# Altium footprint library QFP_Sq_65P_Side_M.PcbLib: 15 footprints
Each footprint in its own frame and in the unit in brackets; x right, y up, seen from the top. Pads: shape width x height; smd on the part's side, far side on the other; paste and mask are expansions set on the pad; w line width, h text height; cw(c..) or ccw(c..) is an arc to the next point about the centre after c.
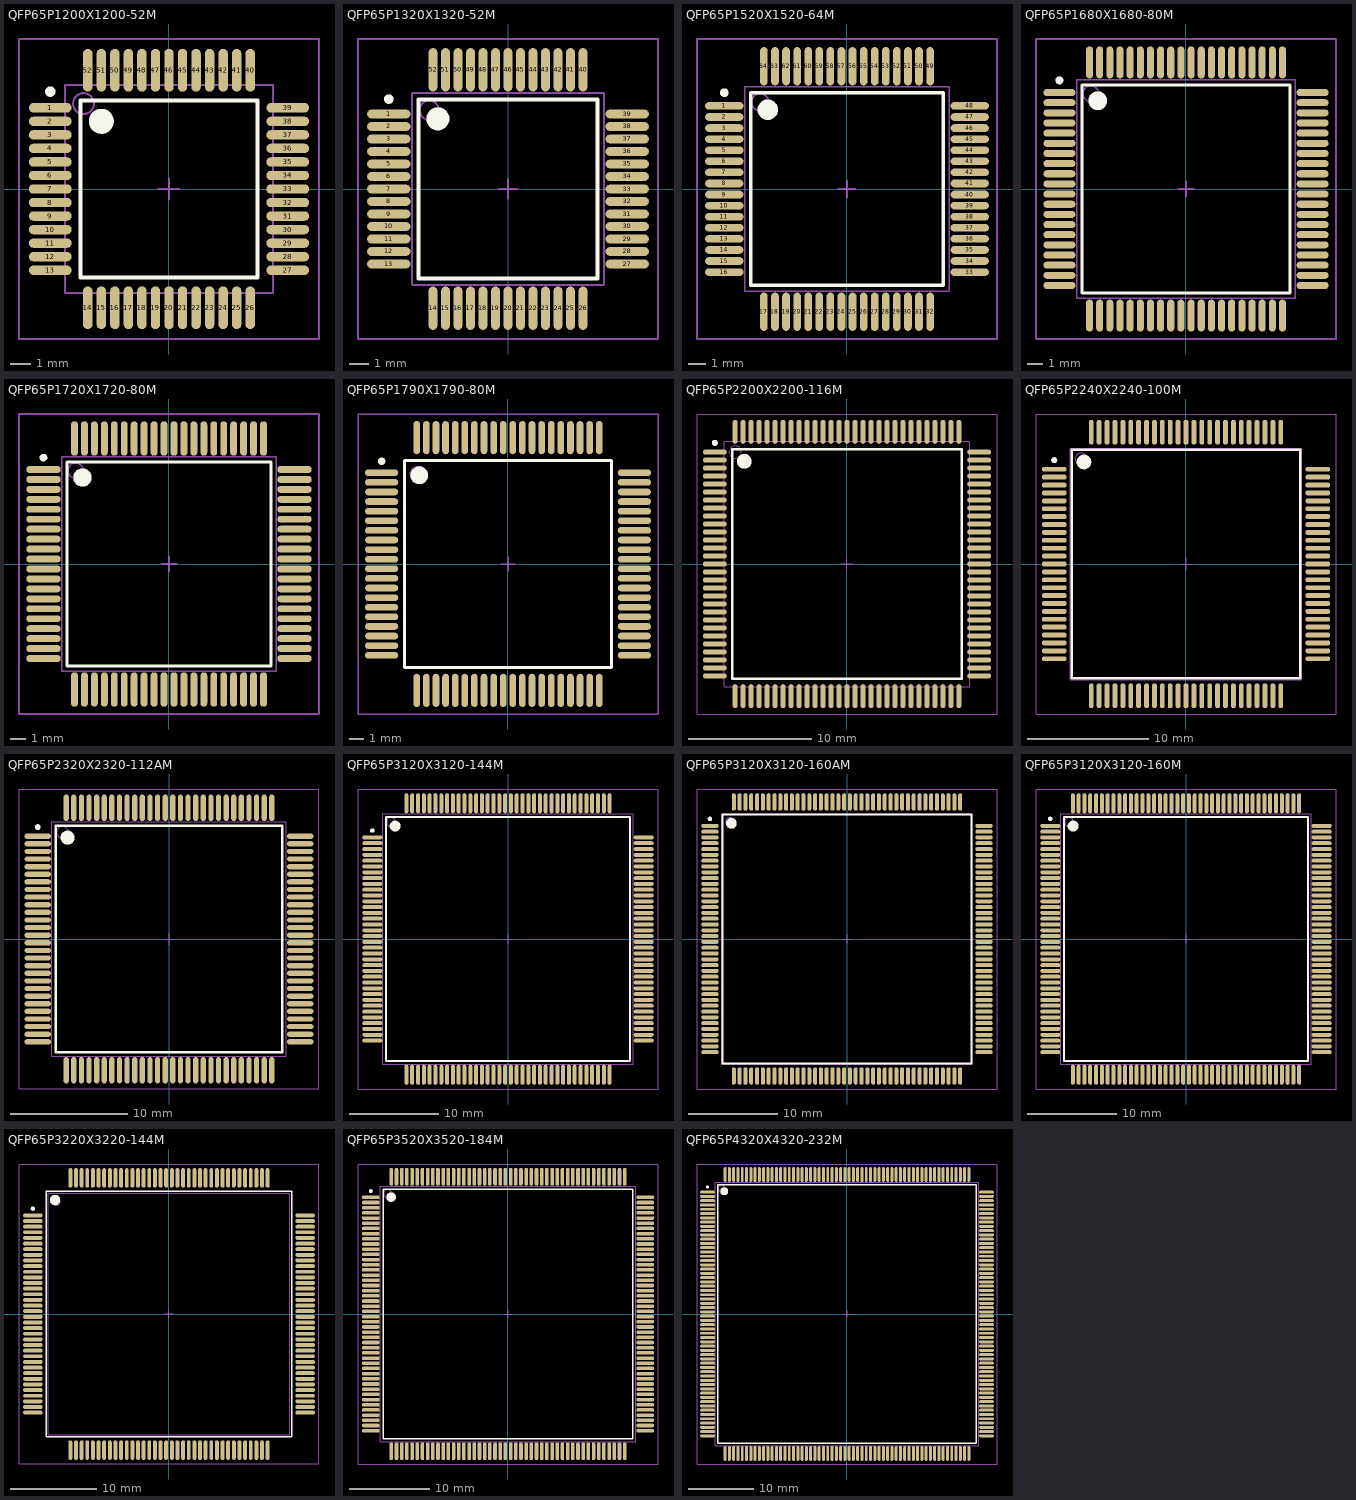
[diagram p0: the footprints below, top view; thin cyan lines are the x and y axes]

## QFP65P1200X1200-52M [mm] "QFP, 52-Leads, Body 10 x 10mm, Pitch 0.65mm, IPC Low Density"
height 1.7
pads (52):
  oval 2.05x0.45 smd: 1(-5.7,3.9) 2(-5.7,3.25) 3(-5.7,2.6) 4(-5.7,1.95) 5(-5.7,1.3) 6(-5.7,0.65) 7(-5.7,0) 8(-5.7,-0.65) 9(-5.7,-1.3) 10(-5.7,-1.95) 11(-5.7,-2.6) 12(-5.7,-3.25) 13(-5.7,-3.9) 27(5.7,-3.9) 28(5.7,-3.25) 29(5.7,-2.6) 30(5.7,-1.95) 31(5.7,-1.3) 32(5.7,-0.65) 33(5.7,0) 34(5.7,0.65) 35(5.7,1.3) 36(5.7,1.95) 37(5.7,2.6) 38(5.7,3.25) 39(5.7,3.9)
  oval 0.45x2.05 smd: 14(-3.9,-5.7) 15(-3.25,-5.7) 16(-2.6,-5.7) 17(-1.95,-5.7) 18(-1.3,-5.7) 19(-0.65,-5.7) 20(0,-5.7) 21(0.65,-5.7) 22(1.3,-5.7) 23(1.95,-5.7) 24(2.6,-5.7) 25(3.25,-5.7) 26(3.9,-5.7) 40(3.9,5.7) 41(3.25,5.7) 42(2.6,5.7) 43(1.95,5.7) 44(1.3,5.7) 45(0.65,5.7) 46(0,5.7) 47(-0.65,5.7) 48(-1.3,5.7) 49(-1.95,5.7) 50(-2.6,5.7) 51(-3.25,5.7) 52(-3.9,5.7)
Top Overlay:
  circle w0.25: c-5.7,4.675 r0.125
  circle w0.6: c-3.25,3.25 r0.3
  lines w0.2: -4.25,-4.25 -4.25,4.25 4.25,4.25 4.25,-4.25 -4.25,-4.25
Mechanical 13:
  circle w0.1: c-4.1,4.1 r0.5
  lines w0.1: -5,-5 -5,5 5,5 5,-5 -5,-5
Mechanical 15:
  lines w0.1: -0.5,0 0.5,0 ; 0,-0.5 0,0.5 ; -7.2,-7.2 -7.2,7.2 7.2,7.2 7.2,-7.2 -7.2,-7.2
3D body: height 1.7, standoff 0, extent -5,-5 5,5

## QFP65P1320X1320-52M [mm] "QFP, 52-Leads, Body 10 x 10mm, Pitch 0.65mm, IPC Low Density"
height 2.45
pads (52):
  oval 2.25x0.45 smd: 1(-6.2,3.9) 2(-6.2,3.25) 3(-6.2,2.6) 4(-6.2,1.95) 5(-6.2,1.3) 6(-6.2,0.65) 7(-6.2,0) 8(-6.2,-0.65) 9(-6.2,-1.3) 10(-6.2,-1.95) 11(-6.2,-2.6) 12(-6.2,-3.25) 13(-6.2,-3.9) 27(6.2,-3.9) 28(6.2,-3.25) 29(6.2,-2.6) 30(6.2,-1.95) 31(6.2,-1.3) 32(6.2,-0.65) 33(6.2,0) 34(6.2,0.65) 35(6.2,1.3) 36(6.2,1.95) 37(6.2,2.6) 38(6.2,3.25) 39(6.2,3.9)
  oval 0.45x2.25 smd: 14(-3.9,-6.2) 15(-3.25,-6.2) 16(-2.6,-6.2) 17(-1.95,-6.2) 18(-1.3,-6.2) 19(-0.65,-6.2) 20(0,-6.2) 21(0.65,-6.2) 22(1.3,-6.2) 23(1.95,-6.2) 24(2.6,-6.2) 25(3.25,-6.2) 26(3.9,-6.2) 40(3.9,6.2) 41(3.25,6.2) 42(2.6,6.2) 43(1.95,6.2) 44(1.3,6.2) 45(0.65,6.2) 46(0,6.2) 47(-0.65,6.2) 48(-1.3,6.2) 49(-1.95,6.2) 50(-2.6,6.2) 51(-3.25,6.2) 52(-3.9,6.2)
Top Overlay:
  circle w0.6: c-3.65,3.65 r0.3
  circle w0.25: c-6.2,4.675 r0.125
  lines w0.2: -4.65,-4.65 4.65,-4.65 4.65,4.65 -4.65,4.65 -4.65,-4.65
Mechanical 13:
  circle w0.1: c-4.1,4.1 r0.5
  lines w0.1: -5,-5 5,-5 5,5 -5,5 -5,-5
Mechanical 15:
  lines w0.1: -0.5,0 0.5,0 ; 0,-0.5 0,0.5 ; -7.8,-7.8 7.8,-7.8 7.8,7.8 -7.8,7.8 -7.8,-7.8
3D body: height 2.45, standoff 0, extent -5,-5 5,5

## QFP65P1520X1520-64M [mm] "QFP, 64-Leads, Body 12 x 12 mm, Pitch 0.65mm, IPC Low Density"
height 2.45
pads (64):
  oval 2.25x0.45 smd: 1(-7.2,4.875) 2(-7.2,4.225) 3(-7.2,3.575) 4(-7.2,2.925) 5(-7.2,2.275) 6(-7.2,1.625) 7(-7.2,0.975) 8(-7.2,0.325) 9(-7.2,-0.325) 10(-7.2,-0.975) 11(-7.2,-1.625) 12(-7.2,-2.275) 13(-7.2,-2.925) 14(-7.2,-3.575) 15(-7.2,-4.225) 16(-7.2,-4.875) 33(7.2,-4.875) 34(7.2,-4.225) 35(7.2,-3.575) 36(7.2,-2.925) 37(7.2,-2.275) 38(7.2,-1.625) 39(7.2,-0.975) 40(7.2,-0.325) 41(7.2,0.325) 42(7.2,0.975) 43(7.2,1.625) 44(7.2,2.275) 45(7.2,2.925) 46(7.2,3.575) 47(7.2,4.225) 48(7.2,4.875)
  oval 0.45x2.25 smd: 17(-4.875,-7.2) 18(-4.225,-7.2) 19(-3.575,-7.2) 20(-2.925,-7.2) 21(-2.275,-7.2) 22(-1.625,-7.2) 23(-0.975,-7.2) 24(-0.325,-7.2) 25(0.325,-7.2) 26(0.975,-7.2) 27(1.625,-7.2) 28(2.275,-7.2) 29(2.925,-7.2) 30(3.575,-7.2) 31(4.225,-7.2) 32(4.875,-7.2) 49(4.875,7.2) 50(4.225,7.2) 51(3.575,7.2) 52(2.925,7.2) 53(2.275,7.2) 54(1.625,7.2) 55(0.975,7.2) 56(0.325,7.2) 57(-0.325,7.2) 58(-0.975,7.2) 59(-1.625,7.2) 60(-2.275,7.2) 61(-2.925,7.2) 62(-3.575,7.2) 63(-4.225,7.2) 64(-4.875,7.2)
Top Overlay:
  circle w0.6: c-4.65,4.65 r0.3
  circle w0.25: c-7.2,5.65 r0.125
  lines w0.2: -5.65,-5.65 5.65,-5.65 5.65,5.65 -5.65,5.65 -5.65,-5.65
Mechanical 13:
  circle w0.1: c-5.1,5.1 r0.5
  lines w0.1: -6,-6 6,-6 6,6 -6,6 -6,-6
Mechanical 15:
  lines w0.1: -0.5,0 0.5,0 ; 0,-0.5 0,0.5 ; -8.8,-8.8 8.8,-8.8 8.8,8.8 -8.8,8.8 -8.8,-8.8
3D body: height 2.45, standoff 0, extent -6,-6 6,6

## QFP65P1680X1680-80M [mm] "80-Pin Quad Flat Pack 0.65 mm Pitch"
height 3.05
pads (80):
  oval 2.05x0.45 smd: 1(-8.1,6.175) 2(-8.1,5.525) 3(-8.1,4.875) 4(-8.1,4.225) 5(-8.1,3.575) 6(-8.1,2.925) 7(-8.1,2.275) 8(-8.1,1.625) 9(-8.1,0.975) 10(-8.1,0.325) 11(-8.1,-0.325) 12(-8.1,-0.975) 13(-8.1,-1.625) 14(-8.1,-2.275) 15(-8.1,-2.925) 16(-8.1,-3.575) 17(-8.1,-4.225) 18(-8.1,-4.875) 19(-8.1,-5.525) 20(-8.1,-6.175) 41(8.1,-6.175) 42(8.1,-5.525) 43(8.1,-4.875) 44(8.1,-4.225) 45(8.1,-3.575) 46(8.1,-2.925) 47(8.1,-2.275) 48(8.1,-1.625) 49(8.1,-0.975) 50(8.1,-0.325) 51(8.1,0.325) 52(8.1,0.975) 53(8.1,1.625) 54(8.1,2.275) 55(8.1,2.925) 56(8.1,3.575) 57(8.1,4.225) 58(8.1,4.875) 59(8.1,5.525) 60(8.1,6.175)
  oval 0.45x2.05 smd: 21(-6.175,-8.1) 22(-5.525,-8.1) 23(-4.875,-8.1) 24(-4.225,-8.1) 25(-3.575,-8.1) 26(-2.925,-8.1) 27(-2.275,-8.1) 28(-1.625,-8.1) 29(-0.975,-8.1) 30(-0.325,-8.1) 31(0.325,-8.1) 32(0.975,-8.1) 33(1.625,-8.1) 34(2.275,-8.1) 35(2.925,-8.1) 36(3.575,-8.1) 37(4.225,-8.1) 38(4.875,-8.1) 39(5.525,-8.1) 40(6.175,-8.1) 61(6.175,8.1) 62(5.525,8.1) 63(4.875,8.1) 64(4.225,8.1) 65(3.575,8.1) 66(2.925,8.1) 67(2.275,8.1) 68(1.625,8.1) 69(0.975,8.1) 70(0.325,8.1) 71(-0.325,8.1) 72(-0.975,8.1) 73(-1.625,8.1) 74(-2.275,8.1) 75(-2.925,8.1) 76(-3.575,8.1) 77(-4.225,8.1) 78(-4.875,8.1) 79(-5.525,8.1) 80(-6.175,8.1)
Top Overlay:
  circle w0.6: c-5.65,5.65 r0.3
  circle w0.25: c-8.1,6.95 r0.125
  lines w0.2: -6.65,-6.65 6.65,-6.65 6.65,6.65 -6.65,6.65 -6.65,-6.65
Mechanical 13:
  circle w0.1: c-6.1,6.1 r0.5
  lines w0.1: -7,-7 7,-7 7,7 -7,7 -7,-7
Mechanical 15:
  lines w0.1: -0.5,0 0.5,0 ; 0,-0.5 0,0.5 ; -9.6,-9.6 9.6,-9.6 9.6,9.6 -9.6,9.6 -9.6,-9.6
3D body: height 3.05, standoff 0, extent -7,-7 7,7

## QFP65P1720X1720-80M [mm] "QFP, 80-Leads, Body 14 x 14mm, Pitch 0.65mm, IPC Low Density"
height 2.45
pads (80):
  oval 2.25x0.45 smd: 1(-8.2,6.175) 2(-8.2,5.525) 3(-8.2,4.875) 4(-8.2,4.225) 5(-8.2,3.575) 6(-8.2,2.925) 7(-8.2,2.275) 8(-8.2,1.625) 9(-8.2,0.975) 10(-8.2,0.325) 11(-8.2,-0.325) 12(-8.2,-0.975) 13(-8.2,-1.625) 14(-8.2,-2.275) 15(-8.2,-2.925) 16(-8.2,-3.575) 17(-8.2,-4.225) 18(-8.2,-4.875) 19(-8.2,-5.525) 20(-8.2,-6.175) 41(8.2,-6.175) 42(8.2,-5.525) 43(8.2,-4.875) 44(8.2,-4.225) 45(8.2,-3.575) 46(8.2,-2.925) 47(8.2,-2.275) 48(8.2,-1.625) 49(8.2,-0.975) 50(8.2,-0.325) 51(8.2,0.325) 52(8.2,0.975) 53(8.2,1.625) 54(8.2,2.275) 55(8.2,2.925) 56(8.2,3.575) 57(8.2,4.225) 58(8.2,4.875) 59(8.2,5.525) 60(8.2,6.175)
  oval 0.45x2.25 smd: 21(-6.175,-8.2) 22(-5.525,-8.2) 23(-4.875,-8.2) 24(-4.225,-8.2) 25(-3.575,-8.2) 26(-2.925,-8.2) 27(-2.275,-8.2) 28(-1.625,-8.2) 29(-0.975,-8.2) 30(-0.325,-8.2) 31(0.325,-8.2) 32(0.975,-8.2) 33(1.625,-8.2) 34(2.275,-8.2) 35(2.925,-8.2) 36(3.575,-8.2) 37(4.225,-8.2) 38(4.875,-8.2) 39(5.525,-8.2) 40(6.175,-8.2) 61(6.175,8.2) 62(5.525,8.2) 63(4.875,8.2) 64(4.225,8.2) 65(3.575,8.2) 66(2.925,8.2) 67(2.275,8.2) 68(1.625,8.2) 69(0.975,8.2) 70(0.325,8.2) 71(-0.325,8.2) 72(-0.975,8.2) 73(-1.625,8.2) 74(-2.275,8.2) 75(-2.925,8.2) 76(-3.575,8.2) 77(-4.225,8.2) 78(-4.875,8.2) 79(-5.525,8.2) 80(-6.175,8.2)
Top Overlay:
  circle w0.6: c-5.65,5.65 r0.3
  circle w0.25: c-8.2,6.95 r0.125
  lines w0.2: -6.65,-6.65 6.65,-6.65 6.65,6.65 -6.65,6.65 -6.65,-6.65
Mechanical 13:
  circle w0.1: c-6.1,6.1 r0.5
  lines w0.1: -7,-7 7,-7 7,7 -7,7 -7,-7
Mechanical 15:
  lines w0.1: -0.5,0 0.5,0 ; 0,-0.5 0,0.5 ; -9.8,-9.8 9.8,-9.8 9.8,9.8 -9.8,9.8 -9.8,-9.8
3D body: height 2.45, standoff 0, extent -7,-7 7,7

## QFP65P1790X1790-80M [mm] "QFP, 80-Leads, Body 14 x 14mm, Pitch 0.65mm, IPC Low Density"
height 3.4
pads (80):
  oval 2.25x0.45 smd: 1(-8.55,6.175) 2(-8.55,5.525) 3(-8.55,4.875) 4(-8.55,4.225) 5(-8.55,3.575) 6(-8.55,2.925) 7(-8.55,2.275) 8(-8.55,1.625) 9(-8.55,0.975) 10(-8.55,0.325) 11(-8.55,-0.325) 12(-8.55,-0.975) 13(-8.55,-1.625) 14(-8.55,-2.275) 15(-8.55,-2.925) 16(-8.55,-3.575) 17(-8.55,-4.225) 18(-8.55,-4.875) 19(-8.55,-5.525) 20(-8.55,-6.175) 41(8.55,-6.175) 42(8.55,-5.525) 43(8.55,-4.875) 44(8.55,-4.225) 45(8.55,-3.575) 46(8.55,-2.925) 47(8.55,-2.275) 48(8.55,-1.625) 49(8.55,-0.975) 50(8.55,-0.325) 51(8.55,0.325) 52(8.55,0.975) 53(8.55,1.625) 54(8.55,2.275) 55(8.55,2.925) 56(8.55,3.575) 57(8.55,4.225) 58(8.55,4.875) 59(8.55,5.525) 60(8.55,6.175)
  oval 0.45x2.25 smd: 21(-6.175,-8.55) 22(-5.525,-8.55) 23(-4.875,-8.55) 24(-4.225,-8.55) 25(-3.575,-8.55) 26(-2.925,-8.55) 27(-2.275,-8.55) 28(-1.625,-8.55) 29(-0.975,-8.55) 30(-0.325,-8.55) 31(0.325,-8.55) 32(0.975,-8.55) 33(1.625,-8.55) 34(2.275,-8.55) 35(2.925,-8.55) 36(3.575,-8.55) 37(4.225,-8.55) 38(4.875,-8.55) 39(5.525,-8.55) 40(6.175,-8.55) 61(6.175,8.55) 62(5.525,8.55) 63(4.875,8.55) 64(4.225,8.55) 65(3.575,8.55) 66(2.925,8.55) 67(2.275,8.55) 68(1.625,8.55) 69(0.975,8.55) 70(0.325,8.55) 71(-0.325,8.55) 72(-0.975,8.55) 73(-1.625,8.55) 74(-2.275,8.55) 75(-2.925,8.55) 76(-3.575,8.55) 77(-4.225,8.55) 78(-4.875,8.55) 79(-5.525,8.55) 80(-6.175,8.55)
Top Overlay:
  circle w0.6: c-6,6 r0.3
  circle w0.25: c-8.55,6.95 r0.125
  lines w0.2: -7,-7 7,-7 7,7 -7,7 -7,-7
Mechanical 13:
  circle w0.1: c-6.1,6.1 r0.5
  lines w0.1: -7,-7 7,-7 7,7 -7,7 -7,-7
Mechanical 15:
  lines w0.1: -0.5,0 0.5,0 ; 0,-0.5 0,0.5 ; -10.15,-10.15 10.15,-10.15 10.15,10.15 -10.15,10.15 -10.15,-10.15
3D body: height 3.4, standoff 0, extent -7,-7 7,7

## QFP65P2200X2200-116M [mm] "116-Pin Quad Flat Pack 0.65 mm Pitch"
height 1.7
pads (116):
  oval 1.95x0.4 smd: 1(-10.75,9.1) 2(-10.75,8.45) 3(-10.75,7.8) 4(-10.75,7.15) 5(-10.75,6.5) 6(-10.75,5.85) 7(-10.75,5.2) 8(-10.75,4.55) 9(-10.75,3.9) 10(-10.75,3.25) 11(-10.75,2.6) 12(-10.75,1.95) 13(-10.75,1.3) 14(-10.75,0.65) 15(-10.75,0) 16(-10.75,-0.65) 17(-10.75,-1.3) 18(-10.75,-1.95) 19(-10.75,-2.6) 20(-10.75,-3.25) 21(-10.75,-3.9) 22(-10.75,-4.55) 23(-10.75,-5.2) 24(-10.75,-5.85) 25(-10.75,-6.5) 26(-10.75,-7.15) 27(-10.75,-7.8) 28(-10.75,-8.45) 29(-10.75,-9.1) 59(10.75,-9.1) 60(10.75,-8.45) 61(10.75,-7.8) 62(10.75,-7.15) 63(10.75,-6.5) 64(10.75,-5.85) 65(10.75,-5.2) 66(10.75,-4.55) 67(10.75,-3.9) 68(10.75,-3.25) 69(10.75,-2.6) 70(10.75,-1.95) 71(10.75,-1.3) 72(10.75,-0.65) 73(10.75,0) 74(10.75,0.65) 75(10.75,1.3) 76(10.75,1.95) 77(10.75,2.6) 78(10.75,3.25) 79(10.75,3.9) 80(10.75,4.55) 81(10.75,5.2) 82(10.75,5.85) 83(10.75,6.5) 84(10.75,7.15) 85(10.75,7.8) 86(10.75,8.45) 87(10.75,9.1)
  oval 0.4x1.95 smd: 30(-9.1,-10.75) 31(-8.45,-10.75) 32(-7.8,-10.75) 33(-7.15,-10.75) 34(-6.5,-10.75) 35(-5.85,-10.75) 36(-5.2,-10.75) 37(-4.55,-10.75) 38(-3.9,-10.75) 39(-3.25,-10.75) 40(-2.6,-10.75) 41(-1.95,-10.75) 42(-1.3,-10.75) 43(-0.65,-10.75) 44(0,-10.75) 45(0.65,-10.75) 46(1.3,-10.75) 47(1.95,-10.75) 48(2.6,-10.75) 49(3.25,-10.75) 50(3.9,-10.75) 51(4.55,-10.75) 52(5.2,-10.75) 53(5.85,-10.75) 54(6.5,-10.75) 55(7.15,-10.75) 56(7.8,-10.75) 57(8.45,-10.75) 58(9.1,-10.75) 88(9.1,10.75) 89(8.45,10.75) 90(7.8,10.75) 91(7.15,10.75) 92(6.5,10.75) 93(5.85,10.75) 94(5.2,10.75) 95(4.55,10.75) 96(3.9,10.75) 97(3.25,10.75) 98(2.6,10.75) 99(1.95,10.75) 100(1.3,10.75) 101(0.65,10.75) 102(0,10.75) 103(-0.65,10.75) 104(-1.3,10.75) 105(-1.95,10.75) 106(-2.6,10.75) 107(-3.25,10.75) 108(-3.9,10.75) 109(-4.55,10.75) 110(-5.2,10.75) 111(-5.85,10.75) 112(-6.5,10.75) 113(-7.15,10.75) 114(-7.8,10.75) 115(-8.45,10.75) 116(-9.1,10.75)
Top Overlay:
  circle w0.6: c-8.35,8.35 r0.3
  circle w0.25: c-10.75,9.85 r0.125
  lines w0.2: -9.35,-9.35 9.35,-9.35 9.35,9.35 -9.35,9.35 -9.35,-9.35
Mechanical 13:
  circle w0.1: c-9.1,9.1 r0.5
  lines w0.1: -10,-10 10,-10 10,10 -10,10 -10,-10
Mechanical 15:
  lines w0.1: -0.5,0 0.5,0 ; 0,-0.5 0,0.5 ; -12.2,-12.2 12.2,-12.2 12.2,12.2 -12.2,12.2 -12.2,-12.2
3D body: height 1.7, standoff 0, extent -10,-10 10,10

## QFP65P2240X2240-100M [mm] "100-Pin Quad Flat Pack 0.65 mm Pitch"
height 4.07
pads (100):
  oval 2.05x0.4 smd: 1(-10.85,7.8) 2(-10.85,7.15) 3(-10.85,6.5) 4(-10.85,5.85) 5(-10.85,5.2) 6(-10.85,4.55) 7(-10.85,3.9) 8(-10.85,3.25) 9(-10.85,2.6) 10(-10.85,1.95) 11(-10.85,1.3) 12(-10.85,0.65) 13(-10.85,0) 14(-10.85,-0.65) 15(-10.85,-1.3) 16(-10.85,-1.95) 17(-10.85,-2.6) 18(-10.85,-3.25) 19(-10.85,-3.9) 20(-10.85,-4.55) 21(-10.85,-5.2) 22(-10.85,-5.85) 23(-10.85,-6.5) 24(-10.85,-7.15) 25(-10.85,-7.8) 51(10.85,-7.8) 52(10.85,-7.15) 53(10.85,-6.5) 54(10.85,-5.85) 55(10.85,-5.2) 56(10.85,-4.55) 57(10.85,-3.9) 58(10.85,-3.25) 59(10.85,-2.6) 60(10.85,-1.95) 61(10.85,-1.3) 62(10.85,-0.65) 63(10.85,0) 64(10.85,0.65) 65(10.85,1.3) 66(10.85,1.95) 67(10.85,2.6) 68(10.85,3.25) 69(10.85,3.9) 70(10.85,4.55) 71(10.85,5.2) 72(10.85,5.85) 73(10.85,6.5) 74(10.85,7.15) 75(10.85,7.8)
  oval 0.4x2.05 smd: 26(-7.8,-10.85) 27(-7.15,-10.85) 28(-6.5,-10.85) 29(-5.85,-10.85) 30(-5.2,-10.85) 31(-4.55,-10.85) 32(-3.9,-10.85) 33(-3.25,-10.85) 34(-2.6,-10.85) 35(-1.95,-10.85) 36(-1.3,-10.85) 37(-0.65,-10.85) 38(0,-10.85) 39(0.65,-10.85) 40(1.3,-10.85) 41(1.95,-10.85) 42(2.6,-10.85) 43(3.25,-10.85) 44(3.9,-10.85) 45(4.55,-10.85) 46(5.2,-10.85) 47(5.85,-10.85) 48(6.5,-10.85) 49(7.15,-10.85) 50(7.8,-10.85) 76(7.8,10.85) 77(7.15,10.85) 78(6.5,10.85) 79(5.85,10.85) 80(5.2,10.85) 81(4.55,10.85) 82(3.9,10.85) 83(3.25,10.85) 84(2.6,10.85) 85(1.95,10.85) 86(1.3,10.85) 87(0.65,10.85) 88(0,10.85) 89(-0.65,10.85) 90(-1.3,10.85) 91(-1.95,10.85) 92(-2.6,10.85) 93(-3.25,10.85) 94(-3.9,10.85) 95(-4.55,10.85) 96(-5.2,10.85) 97(-5.85,10.85) 98(-6.5,10.85) 99(-7.15,10.85) 100(-7.8,10.85)
Top Overlay:
  circle w0.6: c-8.4,8.4 r0.3
  circle w0.25: c-10.85,8.55 r0.125
  lines w0.2: -9.4,-9.4 9.4,-9.4 9.4,9.4 -9.4,9.4 -9.4,-9.4
Mechanical 13:
  circle w0.1: c-8.625,8.625 r0.5
  lines w0.1: -9.525,-9.525 9.525,-9.525 9.525,9.525 -9.525,9.525 -9.525,-9.525
Mechanical 15:
  lines w0.1: -0.5,0 0.5,0 ; 0,-0.5 0,0.5 ; -12.35,-12.35 12.35,-12.35 12.35,12.35 -12.35,12.35 -12.35,-12.35
3D body: height 4.07, standoff 0, extent -9.525,-9.525 9.525,9.525

## QFP65P2320X2320-112AM [mm] "QFP, 112-Leads, Body 20 x 20mm, Pitch 0.65mm, IPC Low Density"
height 3.4
pads (112):
  oval 2.25x0.45 smd: 1(-11.2,8.775) 2(-11.2,8.125) 3(-11.2,7.475) 4(-11.2,6.825) 5(-11.2,6.175) 6(-11.2,5.525) 7(-11.2,4.875) 8(-11.2,4.225) 9(-11.2,3.575) 10(-11.2,2.925) 11(-11.2,2.275) 12(-11.2,1.625) 13(-11.2,0.975) 14(-11.2,0.325) 15(-11.2,-0.325) 16(-11.2,-0.975) 17(-11.2,-1.625) 18(-11.2,-2.275) 19(-11.2,-2.925) 20(-11.2,-3.575) 21(-11.2,-4.225) 22(-11.2,-4.875) 23(-11.2,-5.525) 24(-11.2,-6.175) 25(-11.2,-6.825) 26(-11.2,-7.475) 27(-11.2,-8.125) 28(-11.2,-8.775) 57(11.2,-8.775) 58(11.2,-8.125) 59(11.2,-7.475) 60(11.2,-6.825) 61(11.2,-6.175) 62(11.2,-5.525) 63(11.2,-4.875) 64(11.2,-4.225) 65(11.2,-3.575) 66(11.2,-2.925) 67(11.2,-2.275) 68(11.2,-1.625) 69(11.2,-0.975) 70(11.2,-0.325) 71(11.2,0.325) 72(11.2,0.975) 73(11.2,1.625) 74(11.2,2.275) 75(11.2,2.925) 76(11.2,3.575) 77(11.2,4.225) 78(11.2,4.875) 79(11.2,5.525) 80(11.2,6.175) 81(11.2,6.825) 82(11.2,7.475) 83(11.2,8.125) 84(11.2,8.775)
  oval 0.45x2.25 smd: 29(-8.775,-11.2) 30(-8.125,-11.2) 31(-7.475,-11.2) 32(-6.825,-11.2) 33(-6.175,-11.2) 34(-5.525,-11.2) 35(-4.875,-11.2) 36(-4.225,-11.2) 37(-3.575,-11.2) 38(-2.925,-11.2) 39(-2.275,-11.2) 40(-1.625,-11.2) 41(-0.975,-11.2) 42(-0.325,-11.2) 43(0.325,-11.2) 44(0.975,-11.2) 45(1.625,-11.2) 46(2.275,-11.2) 47(2.925,-11.2) 48(3.575,-11.2) 49(4.225,-11.2) 50(4.875,-11.2) 51(5.525,-11.2) 52(6.175,-11.2) 53(6.825,-11.2) 54(7.475,-11.2) 55(8.125,-11.2) 56(8.775,-11.2) 85(8.775,11.2) 86(8.125,11.2) 87(7.475,11.2) 88(6.825,11.2) 89(6.175,11.2) 90(5.525,11.2) 91(4.875,11.2) 92(4.225,11.2) 93(3.575,11.2) 94(2.925,11.2) 95(2.275,11.2) 96(1.625,11.2) 97(0.975,11.2) 98(0.325,11.2) 99(-0.325,11.2) 100(-0.975,11.2) 101(-1.625,11.2) 102(-2.275,11.2) 103(-2.925,11.2) 104(-3.575,11.2) 105(-4.225,11.2) 106(-4.875,11.2) 107(-5.525,11.2) 108(-6.175,11.2) 109(-6.825,11.2) 110(-7.475,11.2) 111(-8.125,11.2) 112(-8.775,11.2)
Top Overlay:
  circle w0.25: c-11.2,9.55 r0.125
  circle w0.6: c-8.65,8.65 r0.3
  lines w0.2: -9.65,-9.65 -9.65,9.65 9.65,9.65 9.65,-9.65 -9.65,-9.65
Mechanical 13:
  circle w0.1: c-9.1,9.1 r0.5
  lines w0.1: -10,-10 -10,10 10,10 10,-10 -10,-10
Mechanical 15:
  lines w0.1: -0.5,0 0.5,0 ; 0,-0.5 0,0.5 ; -12.8,-12.8 -12.8,12.8 12.8,12.8 12.8,-12.8 -12.8,-12.8
3D body: height 3.4, standoff 0, extent -10,-10 10,10

## QFP65P3120X3120-144M [mm] "QFP, 144-Leads, Body 28 x 28mm, Pitch 0.65mm, IPC Low Density"
height 4.1
pads (144):
  oval 2.25x0.45 smd: 1(-15.2,11.375) 2(-15.2,10.725) 3(-15.2,10.075) 4(-15.2,9.425) 5(-15.2,8.775) 6(-15.2,8.125) 7(-15.2,7.475) 8(-15.2,6.825) 9(-15.2,6.175) 10(-15.2,5.525) 11(-15.2,4.875) 12(-15.2,4.225) 13(-15.2,3.575) 14(-15.2,2.925) 15(-15.2,2.275) 16(-15.2,1.625) 17(-15.2,0.975) 18(-15.2,0.325) 19(-15.2,-0.325) 20(-15.2,-0.975) 21(-15.2,-1.625) 22(-15.2,-2.275) 23(-15.2,-2.925) 24(-15.2,-3.575) 25(-15.2,-4.225) 26(-15.2,-4.875) 27(-15.2,-5.525) 28(-15.2,-6.175) 29(-15.2,-6.825) 30(-15.2,-7.475) 31(-15.2,-8.125) 32(-15.2,-8.775) 33(-15.2,-9.425) 34(-15.2,-10.075) 35(-15.2,-10.725) 36(-15.2,-11.375) 73(15.2,-11.375) 74(15.2,-10.725) 75(15.2,-10.075) 76(15.2,-9.425) 77(15.2,-8.775) 78(15.2,-8.125) 79(15.2,-7.475) 80(15.2,-6.825) 81(15.2,-6.175) 82(15.2,-5.525) 83(15.2,-4.875) 84(15.2,-4.225) 85(15.2,-3.575) 86(15.2,-2.925) 87(15.2,-2.275) 88(15.2,-1.625) 89(15.2,-0.975) 90(15.2,-0.325) 91(15.2,0.325) 92(15.2,0.975) 93(15.2,1.625) 94(15.2,2.275) 95(15.2,2.925) 96(15.2,3.575) 97(15.2,4.225) 98(15.2,4.875) 99(15.2,5.525) 100(15.2,6.175) 101(15.2,6.825) 102(15.2,7.475) 103(15.2,8.125) 104(15.2,8.775) 105(15.2,9.425) 106(15.2,10.075) 107(15.2,10.725) 108(15.2,11.375)
  oval 0.45x2.25 smd: 37(-11.375,-15.2) 38(-10.725,-15.2) 39(-10.075,-15.2) 40(-9.425,-15.2) 41(-8.775,-15.2) 42(-8.125,-15.2) 43(-7.475,-15.2) 44(-6.825,-15.2) 45(-6.175,-15.2) 46(-5.525,-15.2) 47(-4.875,-15.2) 48(-4.225,-15.2) 49(-3.575,-15.2) 50(-2.925,-15.2) 51(-2.275,-15.2) 52(-1.625,-15.2) 53(-0.975,-15.2) 54(-0.325,-15.2) 55(0.325,-15.2) 56(0.975,-15.2) 57(1.625,-15.2) 58(2.275,-15.2) 59(2.925,-15.2) 60(3.575,-15.2) 61(4.225,-15.2) 62(4.875,-15.2) 63(5.525,-15.2) 64(6.175,-15.2) 65(6.825,-15.2) 66(7.475,-15.2) 67(8.125,-15.2) 68(8.775,-15.2) 69(9.425,-15.2) 70(10.075,-15.2) 71(10.725,-15.2) 72(11.375,-15.2) 109(11.375,15.2) 110(10.725,15.2) 111(10.075,15.2) 112(9.425,15.2) 113(8.775,15.2) 114(8.125,15.2) 115(7.475,15.2) 116(6.825,15.2) 117(6.175,15.2) 118(5.525,15.2) 119(4.875,15.2) 120(4.225,15.2) 121(3.575,15.2) 122(2.925,15.2) 123(2.275,15.2) 124(1.625,15.2) 125(0.975,15.2) 126(0.325,15.2) 127(-0.325,15.2) 128(-0.975,15.2) 129(-1.625,15.2) 130(-2.275,15.2) 131(-2.925,15.2) 132(-3.575,15.2) 133(-4.225,15.2) 134(-4.875,15.2) 135(-5.525,15.2) 136(-6.175,15.2) 137(-6.825,15.2) 138(-7.475,15.2) 139(-8.125,15.2) 140(-8.775,15.2) 141(-9.425,15.2) 142(-10.075,15.2) 143(-10.725,15.2) 144(-11.375,15.2)
Top Overlay:
  circle w0.6: c-12.65,12.65 r0.3
  circle w0.25: c-15.2,12.15 r0.125
  lines w0.2: -13.65,-13.65 13.65,-13.65 13.65,13.65 -13.65,13.65 -13.65,-13.65
Mechanical 13:
  circle w0.1: c-13.1,13.1 r0.5
  lines w0.1: -14,-14 14,-14 14,14 -14,14 -14,-14
Mechanical 15:
  lines w0.1: -0.5,0 0.5,0 ; 0,-0.5 0,0.5 ; -16.8,-16.8 16.8,-16.8 16.8,16.8 -16.8,16.8 -16.8,-16.8
3D body: height 4.1, standoff 0, extent -14,-14 14,14

## QFP65P3120X3120-160AM [mm] "QFP, 160-Leads, Body 28 x 28mm, Pitch 0.65mm, IPC Low Density"
height 2.79
pads (160):
  oval 1.95x0.45 smd: 1(-15.35,12.675) 2(-15.35,12.025) 3(-15.35,11.375) 4(-15.35,10.725) 5(-15.35,10.075) 6(-15.35,9.425) 7(-15.35,8.775) 8(-15.35,8.125) 9(-15.35,7.475) 10(-15.35,6.825) 11(-15.35,6.175) 12(-15.35,5.525) 13(-15.35,4.875) 14(-15.35,4.225) 15(-15.35,3.575) 16(-15.35,2.925) 17(-15.35,2.275) 18(-15.35,1.625) 19(-15.35,0.975) 20(-15.35,0.325) 21(-15.35,-0.325) 22(-15.35,-0.975) 23(-15.35,-1.625) 24(-15.35,-2.275) 25(-15.35,-2.925) 26(-15.35,-3.575) 27(-15.35,-4.225) 28(-15.35,-4.875) 29(-15.35,-5.525) 30(-15.35,-6.175) 31(-15.35,-6.825) 32(-15.35,-7.475) 33(-15.35,-8.125) 34(-15.35,-8.775) 35(-15.35,-9.425) 36(-15.35,-10.075) 37(-15.35,-10.725) 38(-15.35,-11.375) 39(-15.35,-12.025) 40(-15.35,-12.675) 81(15.35,-12.675) 82(15.35,-12.025) 83(15.35,-11.375) 84(15.35,-10.725) 85(15.35,-10.075) 86(15.35,-9.425) 87(15.35,-8.775) 88(15.35,-8.125) 89(15.35,-7.475) 90(15.35,-6.825) 91(15.35,-6.175) 92(15.35,-5.525) 93(15.35,-4.875) 94(15.35,-4.225) 95(15.35,-3.575) 96(15.35,-2.925) 97(15.35,-2.275) 98(15.35,-1.625) 99(15.35,-0.975) 100(15.35,-0.325) 101(15.35,0.325) 102(15.35,0.975) 103(15.35,1.625) 104(15.35,2.275) 105(15.35,2.925) 106(15.35,3.575) 107(15.35,4.225) 108(15.35,4.875) 109(15.35,5.525) 110(15.35,6.175) 111(15.35,6.825) 112(15.35,7.475) 113(15.35,8.125) 114(15.35,8.775) 115(15.35,9.425) 116(15.35,10.075) 117(15.35,10.725) 118(15.35,11.375) 119(15.35,12.025) 120(15.35,12.675)
  oval 0.45x1.95 smd: 41(-12.675,-15.35) 42(-12.025,-15.35) 43(-11.375,-15.35) 44(-10.725,-15.35) 45(-10.075,-15.35) 46(-9.425,-15.35) 47(-8.775,-15.35) 48(-8.125,-15.35) 49(-7.475,-15.35) 50(-6.825,-15.35) 51(-6.175,-15.35) 52(-5.525,-15.35) 53(-4.875,-15.35) 54(-4.225,-15.35) 55(-3.575,-15.35) 56(-2.925,-15.35) 57(-2.275,-15.35) 58(-1.625,-15.35) 59(-0.975,-15.35) 60(-0.325,-15.35) 61(0.325,-15.35) 62(0.975,-15.35) 63(1.625,-15.35) 64(2.275,-15.35) 65(2.925,-15.35) 66(3.575,-15.35) 67(4.225,-15.35) 68(4.875,-15.35) 69(5.525,-15.35) 70(6.175,-15.35) 71(6.825,-15.35) 72(7.475,-15.35) 73(8.125,-15.35) 74(8.775,-15.35) 75(9.425,-15.35) 76(10.075,-15.35) 77(10.725,-15.35) 78(11.375,-15.35) 79(12.025,-15.35) 80(12.675,-15.35) 121(12.675,15.35) 122(12.025,15.35) 123(11.375,15.35) 124(10.725,15.35) 125(10.075,15.35) 126(9.425,15.35) 127(8.775,15.35) 128(8.125,15.35) 129(7.475,15.35) 130(6.825,15.35) 131(6.175,15.35) 132(5.525,15.35) 133(4.875,15.35) 134(4.225,15.35) 135(3.575,15.35) 136(2.925,15.35) 137(2.275,15.35) 138(1.625,15.35) 139(0.975,15.35) 140(0.325,15.35) 141(-0.325,15.35) 142(-0.975,15.35) 143(-1.625,15.35) 144(-2.275,15.35) 145(-2.925,15.35) 146(-3.575,15.35) 147(-4.225,15.35) 148(-4.875,15.35) 149(-5.525,15.35) 150(-6.175,15.35) 151(-6.825,15.35) 152(-7.475,15.35) 153(-8.125,15.35) 154(-8.775,15.35) 155(-9.425,15.35) 156(-10.075,15.35) 157(-10.725,15.35) 158(-11.375,15.35) 159(-12.025,15.35) 160(-12.675,15.35)
Top Overlay:
  circle w0.6: c-12.95,12.95 r0.3
  circle w0.25: c-15.35,13.45 r0.125
  lines w0.2: -13.95,-13.95 13.95,-13.95 13.95,13.95 -13.95,13.95 -13.95,-13.95
Mechanical 13:
  circle w0.1: c-13.1,13.1 r0.5
  lines w0.1: -14,-14 14,-14 14,14 -14,14 -14,-14
Mechanical 15:
  lines w0.1: -0.5,0 0.5,0 ; 0,-0.5 0,0.5 ; -16.8,-16.8 16.8,-16.8 16.8,16.8 -16.8,16.8 -16.8,-16.8
3D body: height 2.79, standoff 0, extent -14,-14 14,14

## QFP65P3120X3120-160M [mm] "QFP, 160-Leads, Body 28 x 28mm, Pitch 0.65mm, IPC Low Density"
height 4.1
pads (160):
  oval 2.25x0.45 smd: 1(-15.2,12.675) 2(-15.2,12.025) 3(-15.2,11.375) 4(-15.2,10.725) 5(-15.2,10.075) 6(-15.2,9.425) 7(-15.2,8.775) 8(-15.2,8.125) 9(-15.2,7.475) 10(-15.2,6.825) 11(-15.2,6.175) 12(-15.2,5.525) 13(-15.2,4.875) 14(-15.2,4.225) 15(-15.2,3.575) 16(-15.2,2.925) 17(-15.2,2.275) 18(-15.2,1.625) 19(-15.2,0.975) 20(-15.2,0.325) 21(-15.2,-0.325) 22(-15.2,-0.975) 23(-15.2,-1.625) 24(-15.2,-2.275) 25(-15.2,-2.925) 26(-15.2,-3.575) 27(-15.2,-4.225) 28(-15.2,-4.875) 29(-15.2,-5.525) 30(-15.2,-6.175) 31(-15.2,-6.825) 32(-15.2,-7.475) 33(-15.2,-8.125) 34(-15.2,-8.775) 35(-15.2,-9.425) 36(-15.2,-10.075) 37(-15.2,-10.725) 38(-15.2,-11.375) 39(-15.2,-12.025) 40(-15.2,-12.675) 81(15.2,-12.675) 82(15.2,-12.025) 83(15.2,-11.375) 84(15.2,-10.725) 85(15.2,-10.075) 86(15.2,-9.425) 87(15.2,-8.775) 88(15.2,-8.125) 89(15.2,-7.475) 90(15.2,-6.825) 91(15.2,-6.175) 92(15.2,-5.525) 93(15.2,-4.875) 94(15.2,-4.225) 95(15.2,-3.575) 96(15.2,-2.925) 97(15.2,-2.275) 98(15.2,-1.625) 99(15.2,-0.975) 100(15.2,-0.325) 101(15.2,0.325) 102(15.2,0.975) 103(15.2,1.625) 104(15.2,2.275) 105(15.2,2.925) 106(15.2,3.575) 107(15.2,4.225) 108(15.2,4.875) 109(15.2,5.525) 110(15.2,6.175) 111(15.2,6.825) 112(15.2,7.475) 113(15.2,8.125) 114(15.2,8.775) 115(15.2,9.425) 116(15.2,10.075) 117(15.2,10.725) 118(15.2,11.375) 119(15.2,12.025) 120(15.2,12.675)
  oval 0.45x2.25 smd: 41(-12.675,-15.2) 42(-12.025,-15.2) 43(-11.375,-15.2) 44(-10.725,-15.2) 45(-10.075,-15.2) 46(-9.425,-15.2) 47(-8.775,-15.2) 48(-8.125,-15.2) 49(-7.475,-15.2) 50(-6.825,-15.2) 51(-6.175,-15.2) 52(-5.525,-15.2) 53(-4.875,-15.2) 54(-4.225,-15.2) 55(-3.575,-15.2) 56(-2.925,-15.2) 57(-2.275,-15.2) 58(-1.625,-15.2) 59(-0.975,-15.2) 60(-0.325,-15.2) 61(0.325,-15.2) 62(0.975,-15.2) 63(1.625,-15.2) 64(2.275,-15.2) 65(2.925,-15.2) 66(3.575,-15.2) 67(4.225,-15.2) 68(4.875,-15.2) 69(5.525,-15.2) 70(6.175,-15.2) 71(6.825,-15.2) 72(7.475,-15.2) 73(8.125,-15.2) 74(8.775,-15.2) 75(9.425,-15.2) 76(10.075,-15.2) 77(10.725,-15.2) 78(11.375,-15.2) 79(12.025,-15.2) 80(12.675,-15.2) 121(12.675,15.2) 122(12.025,15.2) 123(11.375,15.2) 124(10.725,15.2) 125(10.075,15.2) 126(9.425,15.2) 127(8.775,15.2) 128(8.125,15.2) 129(7.475,15.2) 130(6.825,15.2) 131(6.175,15.2) 132(5.525,15.2) 133(4.875,15.2) 134(4.225,15.2) 135(3.575,15.2) 136(2.925,15.2) 137(2.275,15.2) 138(1.625,15.2) 139(0.975,15.2) 140(0.325,15.2) 141(-0.325,15.2) 142(-0.975,15.2) 143(-1.625,15.2) 144(-2.275,15.2) 145(-2.925,15.2) 146(-3.575,15.2) 147(-4.225,15.2) 148(-4.875,15.2) 149(-5.525,15.2) 150(-6.175,15.2) 151(-6.825,15.2) 152(-7.475,15.2) 153(-8.125,15.2) 154(-8.775,15.2) 155(-9.425,15.2) 156(-10.075,15.2) 157(-10.725,15.2) 158(-11.375,15.2) 159(-12.025,15.2) 160(-12.675,15.2)
Top Overlay:
  circle w0.6: c-12.65,12.65 r0.3
  circle w0.25: c-15.2,13.45 r0.125
  lines w0.2: -13.65,-13.65 13.65,-13.65 13.65,13.65 -13.65,13.65 -13.65,-13.65
Mechanical 13:
  circle w0.1: c-13.1,13.1 r0.5
  lines w0.1: -14,-14 14,-14 14,14 -14,14 -14,-14
Mechanical 15:
  lines w0.1: -0.5,0 0.5,0 ; 0,-0.5 0,0.5 ; -16.8,-16.8 16.8,-16.8 16.8,16.8 -16.8,16.8 -16.8,-16.8
3D body: height 4.1, standoff 0, extent -14,-14 14,14

## QFP65P3220X3220-144M [mm] "QFP, 144-Leads, Body 28 x 28mm, Pitch 0.65mm, IPC Low Density"
height 3.93
pads (144):
  oval 2.25x0.45 smd: 1(-15.7,11.375) 2(-15.7,10.725) 3(-15.7,10.075) 4(-15.7,9.425) 5(-15.7,8.775) 6(-15.7,8.125) 7(-15.7,7.475) 8(-15.7,6.825) 9(-15.7,6.175) 10(-15.7,5.525) 11(-15.7,4.875) 12(-15.7,4.225) 13(-15.7,3.575) 14(-15.7,2.925) 15(-15.7,2.275) 16(-15.7,1.625) 17(-15.7,0.975) 18(-15.7,0.325) 19(-15.7,-0.325) 20(-15.7,-0.975) 21(-15.7,-1.625) 22(-15.7,-2.275) 23(-15.7,-2.925) 24(-15.7,-3.575) 25(-15.7,-4.225) 26(-15.7,-4.875) 27(-15.7,-5.525) 28(-15.7,-6.175) 29(-15.7,-6.825) 30(-15.7,-7.475) 31(-15.7,-8.125) 32(-15.7,-8.775) 33(-15.7,-9.425) 34(-15.7,-10.075) 35(-15.7,-10.725) 36(-15.7,-11.375) 73(15.7,-11.375) 74(15.7,-10.725) 75(15.7,-10.075) 76(15.7,-9.425) 77(15.7,-8.775) 78(15.7,-8.125) 79(15.7,-7.475) 80(15.7,-6.825) 81(15.7,-6.175) 82(15.7,-5.525) 83(15.7,-4.875) 84(15.7,-4.225) 85(15.7,-3.575) 86(15.7,-2.925) 87(15.7,-2.275) 88(15.7,-1.625) 89(15.7,-0.975) 90(15.7,-0.325) 91(15.7,0.325) 92(15.7,0.975) 93(15.7,1.625) 94(15.7,2.275) 95(15.7,2.925) 96(15.7,3.575) 97(15.7,4.225) 98(15.7,4.875) 99(15.7,5.525) 100(15.7,6.175) 101(15.7,6.825) 102(15.7,7.475) 103(15.7,8.125) 104(15.7,8.775) 105(15.7,9.425) 106(15.7,10.075) 107(15.7,10.725) 108(15.7,11.375)
  oval 0.45x2.25 smd: 37(-11.375,-15.7) 38(-10.725,-15.7) 39(-10.075,-15.7) 40(-9.425,-15.7) 41(-8.775,-15.7) 42(-8.125,-15.7) 43(-7.475,-15.7) 44(-6.825,-15.7) 45(-6.175,-15.7) 46(-5.525,-15.7) 47(-4.875,-15.7) 48(-4.225,-15.7) 49(-3.575,-15.7) 50(-2.925,-15.7) 51(-2.275,-15.7) 52(-1.625,-15.7) 53(-0.975,-15.7) 54(-0.325,-15.7) 55(0.325,-15.7) 56(0.975,-15.7) 57(1.625,-15.7) 58(2.275,-15.7) 59(2.925,-15.7) 60(3.575,-15.7) 61(4.225,-15.7) 62(4.875,-15.7) 63(5.525,-15.7) 64(6.175,-15.7) 65(6.825,-15.7) 66(7.475,-15.7) 67(8.125,-15.7) 68(8.775,-15.7) 69(9.425,-15.7) 70(10.075,-15.7) 71(10.725,-15.7) 72(11.375,-15.7) 109(11.375,15.7) 110(10.725,15.7) 111(10.075,15.7) 112(9.425,15.7) 113(8.775,15.7) 114(8.125,15.7) 115(7.475,15.7) 116(6.825,15.7) 117(6.175,15.7) 118(5.525,15.7) 119(4.875,15.7) 120(4.225,15.7) 121(3.575,15.7) 122(2.925,15.7) 123(2.275,15.7) 124(1.625,15.7) 125(0.975,15.7) 126(0.325,15.7) 127(-0.325,15.7) 128(-0.975,15.7) 129(-1.625,15.7) 130(-2.275,15.7) 131(-2.925,15.7) 132(-3.575,15.7) 133(-4.225,15.7) 134(-4.875,15.7) 135(-5.525,15.7) 136(-6.175,15.7) 137(-6.825,15.7) 138(-7.475,15.7) 139(-8.125,15.7) 140(-8.775,15.7) 141(-9.425,15.7) 142(-10.075,15.7) 143(-10.725,15.7) 144(-11.375,15.7)
Top Overlay:
  circle w0.6: c-13.15,13.15 r0.3
  circle w0.25: c-15.7,12.15 r0.125
  lines w0.2: -14.15,-14.15 14.15,-14.15 14.15,14.15 -14.15,14.15 -14.15,-14.15
Mechanical 13:
  circle w0.1: c-13.035,13.035 r0.5
  lines w0.1: -13.935,-13.935 13.935,-13.935 13.935,13.935 -13.935,13.935 -13.935,-13.935
Mechanical 15:
  lines w0.1: -0.5,0 0.5,0 ; 0,-0.5 0,0.5 ; -17.3,-17.3 17.3,-17.3 17.3,17.3 -17.3,17.3 -17.3,-17.3
3D body: height 3.93, standoff 0, extent -13.935,-13.935 13.935,13.935

## QFP65P3520X3520-184M [mm] "QFP, 184-Leads, Body 32 x 32 mm, Pitch 0.65mm, IPC Low Density"
height 4.2
pads (184):
  oval 2.25x0.45 smd: 1(-17.2,14.625) 2(-17.2,13.975) 3(-17.2,13.325) 4(-17.2,12.675) 5(-17.2,12.025) 6(-17.2,11.375) 7(-17.2,10.725) 8(-17.2,10.075) 9(-17.2,9.425) 10(-17.2,8.775) 11(-17.2,8.125) 12(-17.2,7.475) 13(-17.2,6.825) 14(-17.2,6.175) 15(-17.2,5.525) 16(-17.2,4.875) 17(-17.2,4.225) 18(-17.2,3.575) 19(-17.2,2.925) 20(-17.2,2.275) 21(-17.2,1.625) 22(-17.2,0.975) 23(-17.2,0.325) 24(-17.2,-0.325) 25(-17.2,-0.975) 26(-17.2,-1.625) 27(-17.2,-2.275) 28(-17.2,-2.925) 29(-17.2,-3.575) 30(-17.2,-4.225) 31(-17.2,-4.875) 32(-17.2,-5.525) 33(-17.2,-6.175) 34(-17.2,-6.825) 35(-17.2,-7.475) 36(-17.2,-8.125) 37(-17.2,-8.775) 38(-17.2,-9.425) 39(-17.2,-10.075) 40(-17.2,-10.725) 41(-17.2,-11.375) 42(-17.2,-12.025) 43(-17.2,-12.675) 44(-17.2,-13.325) 45(-17.2,-13.975) 46(-17.2,-14.625) 93(17.2,-14.625) 94(17.2,-13.975) 95(17.2,-13.325) 96(17.2,-12.675) 97(17.2,-12.025) 98(17.2,-11.375) 99(17.2,-10.725) 100(17.2,-10.075) 101(17.2,-9.425) 102(17.2,-8.775) 103(17.2,-8.125) 104(17.2,-7.475) 105(17.2,-6.825) 106(17.2,-6.175) 107(17.2,-5.525) 108(17.2,-4.875) 109(17.2,-4.225) 110(17.2,-3.575) 111(17.2,-2.925) 112(17.2,-2.275) 113(17.2,-1.625) 114(17.2,-0.975) 115(17.2,-0.325) 116(17.2,0.325) 117(17.2,0.975) 118(17.2,1.625) 119(17.2,2.275) 120(17.2,2.925) 121(17.2,3.575) 122(17.2,4.225) 123(17.2,4.875) 124(17.2,5.525) 125(17.2,6.175) 126(17.2,6.825) 127(17.2,7.475) 128(17.2,8.125) 129(17.2,8.775) 130(17.2,9.425) 131(17.2,10.075) 132(17.2,10.725) 133(17.2,11.375) 134(17.2,12.025) 135(17.2,12.675) 136(17.2,13.325) 137(17.2,13.975) 138(17.2,14.625)
  oval 0.45x2.25 smd: 47(-14.625,-17.2) 48(-13.975,-17.2) 49(-13.325,-17.2) 50(-12.675,-17.2) 51(-12.025,-17.2) 52(-11.375,-17.2) 53(-10.725,-17.2) 54(-10.075,-17.2) 55(-9.425,-17.2) 56(-8.775,-17.2) 57(-8.125,-17.2) 58(-7.475,-17.2) 59(-6.825,-17.2) 60(-6.175,-17.2) 61(-5.525,-17.2) 62(-4.875,-17.2) 63(-4.225,-17.2) 64(-3.575,-17.2) 65(-2.925,-17.2) 66(-2.275,-17.2) 67(-1.625,-17.2) 68(-0.975,-17.2) 69(-0.325,-17.2) 70(0.325,-17.2) 71(0.975,-17.2) 72(1.625,-17.2) 73(2.275,-17.2) 74(2.925,-17.2) 75(3.575,-17.2) 76(4.225,-17.2) 77(4.875,-17.2) 78(5.525,-17.2) 79(6.175,-17.2) 80(6.825,-17.2) 81(7.475,-17.2) 82(8.125,-17.2) 83(8.775,-17.2) 84(9.425,-17.2) 85(10.075,-17.2) 86(10.725,-17.2) 87(11.375,-17.2) 88(12.025,-17.2) 89(12.675,-17.2) 90(13.325,-17.2) 91(13.975,-17.2) 92(14.625,-17.2) 139(14.625,17.2) 140(13.975,17.2) 141(13.325,17.2) 142(12.675,17.2) 143(12.025,17.2) 144(11.375,17.2) 145(10.725,17.2) 146(10.075,17.2) 147(9.425,17.2) 148(8.775,17.2) 149(8.125,17.2) 150(7.475,17.2) 151(6.825,17.2) 152(6.175,17.2) 153(5.525,17.2) 154(4.875,17.2) 155(4.225,17.2) 156(3.575,17.2) 157(2.925,17.2) 158(2.275,17.2) 159(1.625,17.2) 160(0.975,17.2) 161(0.325,17.2) 162(-0.325,17.2) 163(-0.975,17.2) 164(-1.625,17.2) 165(-2.275,17.2) 166(-2.925,17.2) 167(-3.575,17.2) 168(-4.225,17.2) 169(-4.875,17.2) 170(-5.525,17.2) 171(-6.175,17.2) 172(-6.825,17.2) 173(-7.475,17.2) 174(-8.125,17.2) 175(-8.775,17.2) 176(-9.425,17.2) 177(-10.075,17.2) 178(-10.725,17.2) 179(-11.375,17.2) 180(-12.025,17.2) 181(-12.675,17.2) 182(-13.325,17.2) 183(-13.975,17.2) 184(-14.625,17.2)
Top Overlay:
  circle w0.6: c-14.65,14.65 r0.3
  circle w0.25: c-17.2,15.4 r0.125
  lines w0.2: -15.65,-15.65 15.65,-15.65 15.65,15.65 -15.65,15.65 -15.65,-15.65
Mechanical 13:
  circle w0.1: c-15.1,15.1 r0.5
  lines w0.1: -16,-16 16,-16 16,16 -16,16 -16,-16
Mechanical 15:
  lines w0.1: -0.5,0 0.5,0 ; 0,-0.5 0,0.5 ; -18.8,-18.8 18.8,-18.8 18.8,18.8 -18.8,18.8 -18.8,-18.8
3D body: height 4.2, standoff 0, extent -16,-16 16,16

## QFP65P4320X4320-232M [mm] "QFP, 232-Leads, Body 40 x 40 mm, Pitch 0.65mm, IPC Low Density"
height 4.2
pads (232):
  oval 2.25x0.45 smd: 1(-21.2,18.525) 2(-21.2,17.875) 3(-21.2,17.225) 4(-21.2,16.575) 5(-21.2,15.925) 6(-21.2,15.275) 7(-21.2,14.625) 8(-21.2,13.975) 9(-21.2,13.325) 10(-21.2,12.675) 11(-21.2,12.025) 12(-21.2,11.375) 13(-21.2,10.725) 14(-21.2,10.075) 15(-21.2,9.425) 16(-21.2,8.775) 17(-21.2,8.125) 18(-21.2,7.475) 19(-21.2,6.825) 20(-21.2,6.175) 21(-21.2,5.525) 22(-21.2,4.875) 23(-21.2,4.225) 24(-21.2,3.575) 25(-21.2,2.925) 26(-21.2,2.275) 27(-21.2,1.625) 28(-21.2,0.975) 29(-21.2,0.325) 30(-21.2,-0.325) 31(-21.2,-0.975) 32(-21.2,-1.625) 33(-21.2,-2.275) 34(-21.2,-2.925) 35(-21.2,-3.575) 36(-21.2,-4.225) 37(-21.2,-4.875) 38(-21.2,-5.525) 39(-21.2,-6.175) 40(-21.2,-6.825) 41(-21.2,-7.475) 42(-21.2,-8.125) 43(-21.2,-8.775) 44(-21.2,-9.425) 45(-21.2,-10.075) 46(-21.2,-10.725) 47(-21.2,-11.375) 48(-21.2,-12.025) 49(-21.2,-12.675) 50(-21.2,-13.325) 51(-21.2,-13.975) 52(-21.2,-14.625) 53(-21.2,-15.275) 54(-21.2,-15.925) 55(-21.2,-16.575) 56(-21.2,-17.225) 57(-21.2,-17.875) 58(-21.2,-18.525) 117(21.2,-18.525) 118(21.2,-17.875) 119(21.2,-17.225) 120(21.2,-16.575) 121(21.2,-15.925) 122(21.2,-15.275) 123(21.2,-14.625) 124(21.2,-13.975) 125(21.2,-13.325) 126(21.2,-12.675) 127(21.2,-12.025) 128(21.2,-11.375) 129(21.2,-10.725) 130(21.2,-10.075) 131(21.2,-9.425) 132(21.2,-8.775) 133(21.2,-8.125) 134(21.2,-7.475) 135(21.2,-6.825) 136(21.2,-6.175) 137(21.2,-5.525) 138(21.2,-4.875) 139(21.2,-4.225) 140(21.2,-3.575) 141(21.2,-2.925) 142(21.2,-2.275) 143(21.2,-1.625) 144(21.2,-0.975) 145(21.2,-0.325) 146(21.2,0.325) 147(21.2,0.975) 148(21.2,1.625) 149(21.2,2.275) 150(21.2,2.925) 151(21.2,3.575) 152(21.2,4.225) 153(21.2,4.875) 154(21.2,5.525) 155(21.2,6.175) 156(21.2,6.825) 157(21.2,7.475) 158(21.2,8.125) 159(21.2,8.775) 160(21.2,9.425) 161(21.2,10.075) 162(21.2,10.725) 163(21.2,11.375) 164(21.2,12.025) 165(21.2,12.675) 166(21.2,13.325) 167(21.2,13.975) 168(21.2,14.625) 169(21.2,15.275) 170(21.2,15.925) 171(21.2,16.575) 172(21.2,17.225) 173(21.2,17.875) 174(21.2,18.525)
  oval 0.45x2.25 smd: 59(-18.525,-21.2) 60(-17.875,-21.2) 61(-17.225,-21.2) 62(-16.575,-21.2) 63(-15.925,-21.2) 64(-15.275,-21.2) 65(-14.625,-21.2) 66(-13.975,-21.2) 67(-13.325,-21.2) 68(-12.675,-21.2) 69(-12.025,-21.2) 70(-11.375,-21.2) 71(-10.725,-21.2) 72(-10.075,-21.2) 73(-9.425,-21.2) 74(-8.775,-21.2) 75(-8.125,-21.2) 76(-7.475,-21.2) 77(-6.825,-21.2) 78(-6.175,-21.2) 79(-5.525,-21.2) 80(-4.875,-21.2) 81(-4.225,-21.2) 82(-3.575,-21.2) 83(-2.925,-21.2) 84(-2.275,-21.2) 85(-1.625,-21.2) 86(-0.975,-21.2) 87(-0.325,-21.2) 88(0.325,-21.2) 89(0.975,-21.2) 90(1.625,-21.2) 91(2.275,-21.2) 92(2.925,-21.2) 93(3.575,-21.2) 94(4.225,-21.2) 95(4.875,-21.2) 96(5.525,-21.2) 97(6.175,-21.2) 98(6.825,-21.2) 99(7.475,-21.2) 100(8.125,-21.2) 101(8.775,-21.2) 102(9.425,-21.2) 103(10.075,-21.2) 104(10.725,-21.2) 105(11.375,-21.2) 106(12.025,-21.2) 107(12.675,-21.2) 108(13.325,-21.2) 109(13.975,-21.2) 110(14.625,-21.2) 111(15.275,-21.2) 112(15.925,-21.2) 113(16.575,-21.2) 114(17.225,-21.2) 115(17.875,-21.2) 116(18.525,-21.2) 175(18.525,21.2) 176(17.875,21.2) 177(17.225,21.2) 178(16.575,21.2) 179(15.925,21.2) 180(15.275,21.2) 181(14.625,21.2) 182(13.975,21.2) 183(13.325,21.2) 184(12.675,21.2) 185(12.025,21.2) 186(11.375,21.2) 187(10.725,21.2) 188(10.075,21.2) 189(9.425,21.2) 190(8.775,21.2) 191(8.125,21.2) 192(7.475,21.2) 193(6.825,21.2) 194(6.175,21.2) 195(5.525,21.2) 196(4.875,21.2) 197(4.225,21.2) 198(3.575,21.2) 199(2.925,21.2) 200(2.275,21.2) 201(1.625,21.2) 202(0.975,21.2) 203(0.325,21.2) 204(-0.325,21.2) 205(-0.975,21.2) 206(-1.625,21.2) 207(-2.275,21.2) 208(-2.925,21.2) 209(-3.575,21.2) 210(-4.225,21.2) 211(-4.875,21.2) 212(-5.525,21.2) 213(-6.175,21.2) 214(-6.825,21.2) 215(-7.475,21.2) 216(-8.125,21.2) 217(-8.775,21.2) 218(-9.425,21.2) 219(-10.075,21.2) 220(-10.725,21.2) 221(-11.375,21.2) 222(-12.025,21.2) 223(-12.675,21.2) 224(-13.325,21.2) 225(-13.975,21.2) 226(-14.625,21.2) 227(-15.275,21.2) 228(-15.925,21.2) 229(-16.575,21.2) 230(-17.225,21.2) 231(-17.875,21.2) 232(-18.525,21.2)
Top Overlay:
  circle w0.6: c-18.65,18.65 r0.3
  circle w0.25: c-21.2,19.3 r0.125
  lines w0.2: -19.65,-19.65 19.65,-19.65 19.65,19.65 -19.65,19.65 -19.65,-19.65
Mechanical 13:
  circle w0.1: c-19.1,19.1 r0.5
  lines w0.1: -20,-20 20,-20 20,20 -20,20 -20,-20
Mechanical 15:
  lines w0.1: -0.5,0 0.5,0 ; 0,-0.5 0,0.5 ; -22.8,-22.8 22.8,-22.8 22.8,22.8 -22.8,22.8 -22.8,-22.8
3D body: height 4.2, standoff 0, extent -20,-20 20,20